# Altium schematic symbol library Sch_ATMega328p.SchLib: 1 symbol
Pins are listed as number, name and electrical type; pins without a type are passive.

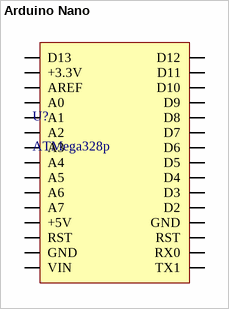
[diagram p0: symbol Arduino Nano]

## Arduino Nano
designator U?, comment ATMega328p  (no BOM)
DCCduino Nano CH340 - аналог Arduino Nano v3.0 TYPE C
footprint PCB_ATMega328p (Arduino Nano)
pins: 0 VIN, 1 GND, 2 RST, 3 +5V, 4 A7, 5 A6, 6 A5, 7 A4, 8 A3, 9 A2, 10 A1, 11 A0, 12 AREF, 13 +3.3V, 14 D13, 15 D12, 16 D11, 17 D10, 18 D9, 19 D8, 20 D7, 21 D6, 22 D5, 23 D4, 24 D3, 25 D2, 26 GND, 27 RST, 28 RX0, 29 TX1